# Altium footprint library PcbLib1.PcbLib: 218 footprints (part 6 of 14)
Each footprint in its own frame and in the unit in brackets; x right, y up, seen from the top. Pads: shape width x height; smd on the part's side, far side on the other; paste and mask are expansions set on the pad; w line width, h text height; cw(c..) or ccw(c..) is an arc to the next point about the centre after c.
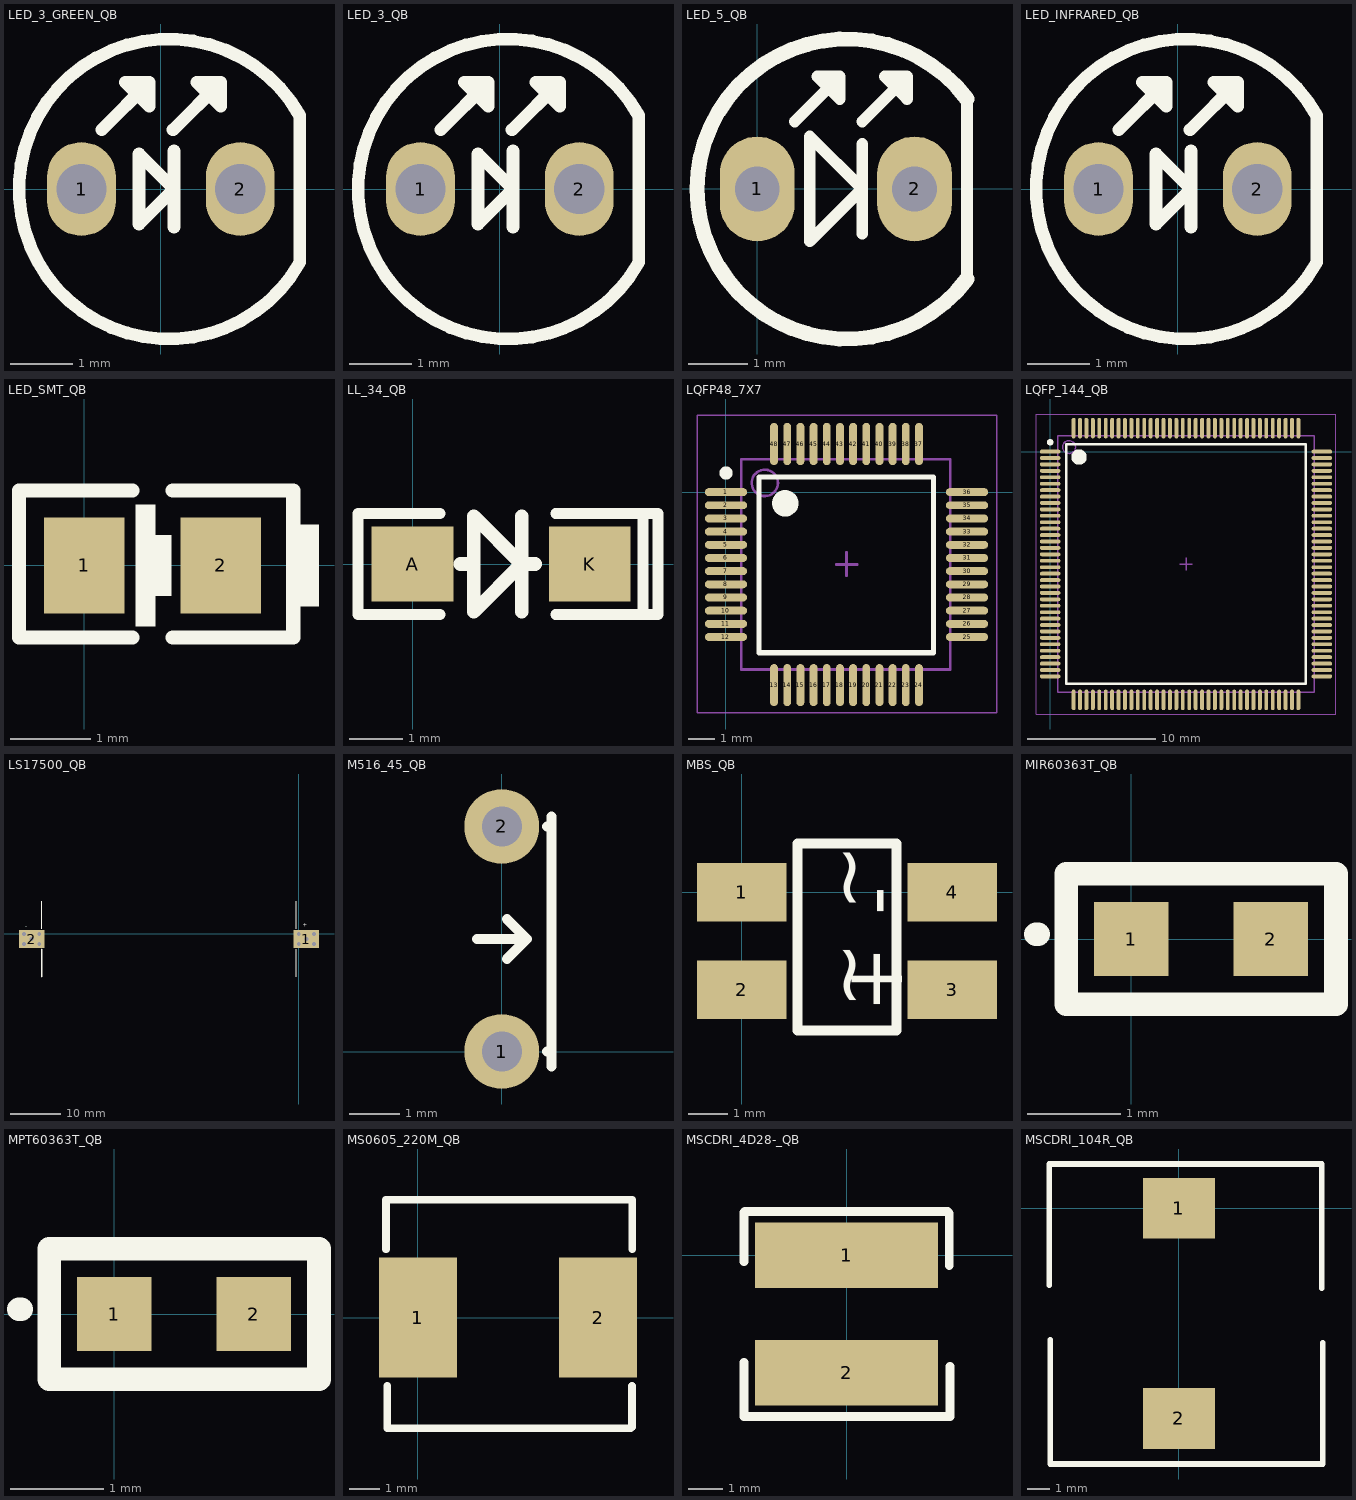
[diagram p5: the footprints below, top view; thin cyan lines are the x and y axes]

## LED_3_GREEN_QB [mm]
pads (2):
  oval 1.1x1.5 hole 0.8: 1(-1.27,0) 2(1.27,0)
Top Overlay:
  lines w0.2: 2.22,-1.171 2.22,1.18
  lines w0.203: -0.948,0.946 -0.186,1.708 ; 0.195,0.946 0.957,1.708 ; 0.209,-0.61 0.209,0.61 ; 2.22,1.18 ccw(c0.13,0) 2.223,-1.174 ; -0.186,1.708 -0.567,1.708 -0.186,1.327 -0.186,1.708 ; 0.957,1.708 0.957,1.327 0.576,1.708 0.957,1.708 ; -0.349,-0.559 0.209,0 -0.349,0.559 -0.349,-0.559
3D body: height 9, standoff 5, extent -1.425,-1.45 1.563,1.544
3D body: height 10.5, standoff 7.5, extent -1.423,-1.45 1.561,1.537
3D body: height 1.4, standoff -6.6, extent -1.392,-0.254 -0.894,0.245
3D body: height 1.4, standoff -6.6, extent 1.026,-0.245 1.524,0.254

## LED_3_QB [mm]
pads (2):
  oval 1.1x1.5 hole 0.8: 1(-1.27,0) 2(1.27,0)
Top Overlay:
  lines w0.2: 2.22,-1.171 2.22,1.18
  lines w0.203: -0.948,0.946 -0.186,1.708 ; 0.195,0.946 0.957,1.708 ; 0.209,-0.61 0.209,0.61 ; 2.22,1.18 ccw(c0.13,0) 2.223,-1.174 ; -0.186,1.708 -0.567,1.708 -0.186,1.327 -0.186,1.708 ; 0.957,1.708 0.957,1.327 0.576,1.708 0.957,1.708 ; -0.349,-0.559 0.209,0 -0.349,0.559 -0.349,-0.559
3D body: height 4, standoff 0, extent -1.425,-1.45 1.563,1.544
3D body: height 5.5, standoff 2.5, extent -1.423,-1.45 1.561,1.537
3D body: height 0, standoff -2, extent -1.392,-0.254 -0.894,0.245
3D body: height 0, standoff -2, extent 1.026,-0.245 1.524,0.254

## LED_5_QB [mil]
pads (2):
  oval 50x70 hole 30: 1(0,0) 2(105,0)
Top Overlay:
  lines w7.78: 25,45 55,75 ; 70,-30 70,30 ; 70,45 100,75 ; 140,-60.15 140,60 ; 55,75 55,60 40,75 55,75 ; 100,75 100,60 85,75 100,75 ; 35,-35 35,35 70,0 35,-35
  lines w10: 140,-60.15 cw(c59.9,-0.07) 140,60
3D body: height 157.48, standoff 0, extent -14.3,-70.72 126.87,70.73
3D body: height 228.35, standoff 86.61, extent -14.12,-70.56 126.87,70.57
3D body: height 0, standoff -78.74, extent -9.76,-9.82 9.84,9.83
3D body: height 0, standoff -78.74, extent 95.24,-9.82 114.85,9.83

## LED_INFRARED_QB [mm]
pads (2):
  oval 1.1x1.5 hole 0.8: 1(-1.27,0) 2(1.27,0)
Top Overlay:
  lines w0.2: 2.22,-1.171 2.22,1.18
  lines w0.203: -0.948,0.946 -0.186,1.708 ; 0.195,0.946 0.957,1.708 ; 0.209,-0.61 0.209,0.61 ; 2.22,1.18 ccw(c0.13,0) 2.223,-1.174 ; -0.186,1.708 -0.567,1.708 -0.186,1.327 -0.186,1.708 ; 0.957,1.708 0.957,1.327 0.576,1.708 0.957,1.708 ; -0.349,-0.559 0.209,0 -0.349,0.559 -0.349,-0.559
3D body: height 4, standoff 0, extent -1.425,-1.45 1.563,1.544
3D body: height 5.5, standoff 2.5, extent -1.423,-1.45 1.561,1.537
3D body: height 0, standoff -2, extent -1.392,-0.254 -0.894,0.245
3D body: height 0, standoff -2, extent 1.026,-0.245 1.524,0.254

## LED_SMT_QB [mm]
pads (2):
  rect 1x1.2 smd: 1(0,0) 2(1.7,0)
Top Overlay:
  rectangle: 2.6,-0.508 2.921,0.508
  rectangle: 0.635,-0.762 0.889,0.762
  rectangle: 0.762,-0.381 1.083,0.381
  lines w0.152: -0.813,0.831 -0.813,0.933
  lines w0.178: 0.6,-0.896 -0.813,-0.896 -0.813,0.933 0.6,0.933 ; 1.1,-0.896 2.6,-0.896 2.6,0.933 1.1,0.933
3D body: height 0.6, standoff 0, extent 0,-0.508 1.778,0.508

## LL_34_QB [mil]
pads (2):
  rect 60x55 smd: A(0,0) K(130,0)
Top Overlay:
  lines w8: 20,-37 -40,-37 -40,37 20,37 ; 105,-37 169,-37 ; 105,37 169,37 ; 169,-37 169,37 ; 169,-37 180,-37 180,37 169,37
  lines w10: 35,0 45,0 ; 80,-35 80,35 ; 90,0 80,0 ; 80,0 45,-35 45,35 80,0
3D body: height 59, standoff 0.06, extent -3.86,-28.59 133.94,30.24

## LQFP48_7X7 [mm]
pads (48):
  oval 1.6x0.3 smd: 1(0,0) 2(0,-0.5) 3(0,-1) 4(0,-1.5) 5(0,-2) 6(0,-2.5) 7(0,-3) 8(0,-3.5) 9(0,-4) 10(0,-4.5) 11(0,-5) 12(0,-5.5) 25(9.15,-5.5) 26(9.15,-5) 27(9.15,-4.5) 28(9.15,-4) 29(9.15,-3.5) 30(9.15,-3) 31(9.15,-2.5) 32(9.15,-2) 33(9.15,-1.5) 34(9.15,-1) 35(9.15,-0.5) 36(9.15,0)
  oval 0.3x1.6 smd: 13(1.825,-7.325) 14(2.325,-7.325) 15(2.825,-7.325) 16(3.325,-7.325) 17(3.825,-7.325) 18(4.325,-7.325) 19(4.825,-7.325) 20(5.325,-7.325) 21(5.825,-7.325) 22(6.325,-7.325) 23(6.825,-7.325) 24(7.325,-7.325) 37(7.325,1.825) 38(6.825,1.825) 39(6.325,1.825) 40(5.825,1.825) 41(5.325,1.825) 42(4.825,1.825) 43(4.325,1.825) 44(3.825,1.825) 45(3.325,1.825) 46(2.825,1.825) 47(2.325,1.825) 48(1.825,1.825)
Top Overlay:
  circle w0.25: c0,0.725 r0.125
  circle w0.6: c2.25,-0.425 r0.2
  lines w0.2: 1.25,-6.096 1.25,0.575 7.874,0.575 7.874,-6.096 1.25,-6.096
Mechanical 13:
  circle w0.1: c1.475,0.35 r0.5
  lines w0.1: 0.575,-6.731 0.575,1.25 8.509,1.25 8.509,-6.731 0.575,-6.731
Mechanical 15:
  lines w0.05: -1.1,-8.382 -1.1,2.925 10.287,2.925 10.287,-8.382 -1.1,-8.382
  lines w0.1: 4.191,-2.75 4.979,-2.75 ; 4.575,-3.175 4.575,-2.827 4.575,-2.286
3D body: height 1.6, standoff 0.1, extent 0.575,-6.731 8.509,1.25

## LQFP_144_QB [mm]
height 1.6
pads (144):
  oval 1.6x0.3 smd: 1(0,0) 2(0,-0.5) 3(0,-1) 4(0,-1.5) 5(0,-2) 6(0,-2.5) 7(0,-3) 8(0,-3.5) 9(0,-4) 10(0,-4.5) 11(0,-5) 12(0,-5.5) 13(0,-6) 14(0,-6.5) 15(0,-7) 16(0,-7.5) 17(0,-8) 18(0,-8.5) 19(0,-9) 20(0,-9.5) 21(0,-10) 22(0,-10.5) 23(0,-11) 24(0,-11.5) 25(0,-12) 26(0,-12.5) 27(0,-13) 28(0,-13.5) 29(0,-14) 30(0,-14.5) 31(0,-15) 32(0,-15.5) 33(0,-16) 34(0,-16.5) 35(0,-17) 36(0,-17.5) 73(21.15,-17.5) 74(21.15,-17) 75(21.15,-16.5) 76(21.15,-16) 77(21.15,-15.5) 78(21.15,-15) 79(21.15,-14.5) 80(21.15,-14) 81(21.15,-13.5) 82(21.15,-13) 83(21.15,-12.5) 84(21.15,-12) 85(21.15,-11.5) 86(21.15,-11) 87(21.15,-10.5) 88(21.15,-10) 89(21.15,-9.5) 90(21.15,-9) 91(21.15,-8.5) 92(21.15,-8) 93(21.15,-7.5) 94(21.15,-7) 95(21.15,-6.5) 96(21.15,-6) 97(21.15,-5.5) 98(21.15,-5) 99(21.15,-4.5) 100(21.15,-4) 101(21.15,-3.5) 102(21.15,-3) 103(21.15,-2.5) 104(21.15,-2) 105(21.15,-1.5) 106(21.15,-1) 107(21.15,-0.5) 108(21.15,0)
  oval 0.3x1.6 smd: 37(1.825,-19.325) 38(2.325,-19.325) 39(2.825,-19.325) 40(3.325,-19.325) 41(3.825,-19.325) 42(4.325,-19.325) 43(4.825,-19.325) 44(5.325,-19.325) 45(5.825,-19.325) 46(6.325,-19.325) 47(6.825,-19.325) 48(7.325,-19.325) 49(7.825,-19.325) 50(8.325,-19.325) 51(8.825,-19.325) 52(9.325,-19.325) 53(9.825,-19.325) 54(10.325,-19.325) 55(10.825,-19.325) 56(11.325,-19.325) 57(11.825,-19.325) 58(12.325,-19.325) 59(12.825,-19.325) 60(13.325,-19.325) 61(13.825,-19.325) 62(14.325,-19.325) 63(14.825,-19.325) 64(15.325,-19.325) 65(15.825,-19.325) 66(16.325,-19.325) 67(16.825,-19.325) 68(17.325,-19.325) 69(17.825,-19.325) 70(18.325,-19.325) 71(18.825,-19.325) 72(19.325,-19.325) 109(19.325,1.825) 110(18.825,1.825) 111(18.325,1.825) 112(17.825,1.825) 113(17.325,1.825) 114(16.825,1.825) 115(16.325,1.825) 116(15.825,1.825) 117(15.325,1.825) 118(14.825,1.825) 119(14.325,1.825) 120(13.825,1.825) 121(13.325,1.825) 122(12.825,1.825) 123(12.325,1.825) 124(11.825,1.825) 125(11.325,1.825) 126(10.825,1.825) 127(10.325,1.825) 128(9.825,1.825) 129(9.325,1.825) 130(8.825,1.825) 131(8.325,1.825) 132(7.825,1.825) 133(7.325,1.825) 134(6.825,1.825) 135(6.325,1.825) 136(5.825,1.825) 137(5.325,1.825) 138(4.825,1.825) 139(4.325,1.825) 140(3.825,1.825) 141(3.325,1.825) 142(2.825,1.825) 143(2.325,1.825) 144(1.825,1.825)
Top Overlay:
  circle w0.25: c0,0.725 r0.125
  circle w0.6: c2.25,-0.425 r0.3
  lines w0.2: 1.25,-18.075 1.25,0.575 19.9,0.575 19.9,-18.075 1.25,-18.075
Mechanical 13:
  circle w0.1: c1.475,0.35 r0.5
  lines w0.1: 0.575,-18.75 0.575,1.25 20.575,1.25 20.575,-18.75 0.575,-18.75
Mechanical 15:
  lines w0.05: -1.1,-20.425 -1.1,2.925 22.25,2.925 22.25,-20.425 -1.1,-20.425
  lines w0.1: 10.075,-8.75 11.075,-8.75 ; 10.575,-9.25 10.575,-8.25
3D body: height 1.6, standoff 0.1, extent 0.575,-18.75 20.575,1.25

## LS17500_QB [mm]
pads (12):
  rect 1x1 hole 0.762: 1(0,-2) 1(0,0) 1(1.5,-1) 1(3,-2) 1(3,0) 2(-54.4,-2) 2(-54.4,0) 2(-52.9,-1) 2(-51.4,-2) 2(-51.4,0)
  rect 5x3.5 smd: 1(1.5,-1) 2(-52.9,-1)
Top Overlay:
  lines w0.127: -50.9,1 -50.9,6.5 ; -0.5,-8.5 -0.5,-3 ; -0.5,1 -0.5,6.5
  lines w0.3: -50.9,-8.5 -50.9,-3
  text "-" at -54.202,1.159 h0.8
  text "+" at 0.789,1.413 h0.8
3D body "dianchi17x50-1225.stp": height 20.92, standoff 0, extent -53.86,-9.643 2.54,7.357

## M516_45_QB [mm]
height 5
pads (2):
  round 1.5 hole 0.8: 1(0,0) 2(0,4.5)
Top Overlay:
  lines w0.2: -0.5,2.25 0.5,2.25 ; 0.1,1.85 0.5,2.25 ; 0.1,2.65 0.5,2.25 ; 0.9,0 1,0 ; 0.9,4.5 1,4.5 ; 1,-0.3 1,4.7
3D body: height 6.75, standoff 6.25, extent -0.254,-0.249 0.243,0.249
3D body: height 6.75, standoff 6.25, extent -0.249,4.252 0.249,4.75
3D body: height 6.75, standoff 6.25, extent -2.005,-0.229 0.051,0.61
3D body: height 6.75, standoff 6.25, extent -2.019,3.886 0.038,4.724
3D body: height 9.24, standoff 1.54, extent -17.157,-0.383 -0.533,4.597
3D body: height 6.5, standoff -2, extent -0.25,-0.249 0.25,0.25
3D body: height 6.5, standoff -2, extent -0.25,4.251 0.25,4.75

## MBS_QB [mm]
pads (4):
  rect 2.3x1.5 smd: 1(0,0) 2(0,-2.5) 3(5.4,-2.5) 4(5.4,0)
Top Overlay:
  lines w0.254: 1.427,-3.548 1.427,1.252 3.973,1.252 3.973,-3.548 1.427,-3.548
  text "+" at 4.112,-3.091 h1.5
  text "-" at 4.112,-0.591 h1.5
  text "~" at 3.412,-2.991 h1.5
  text "~" at 3.412,-0.491 h1.5
3D body: height 1, standoff 0, extent 3.764,-3.099 5.923,-1.93
3D body: height 1, standoff 0, extent 3.764,-0.584 5.923,0.584
3D body: height 1, standoff 0, extent -0.414,-3.099 1.605,-1.93
3D body: height 1, standoff 0, extent -0.376,-0.61 1.605,0.559
3D body: height 3, standoff 0, extent 1.465,-3.531 3.878,1.143

## MIR60363T_QB [mm]
pads (2):
  rect 0.8x0.8 smd: 1(0,0) 2(1.5,0)
Top Overlay:
  lines w0.254: -1.025,0.05 -1,0.05 ; -0.7,-0.7 -0.7,0.7 2.2,0.7 2.2,-0.7 -0.7,-0.7
3D body: height 0.05, standoff 0, extent -0.575,-0.575 2.075,0.575
3D body: height 0.3, standoff 0.01, extent -0.575,-0.575 2.075,0.575

## MPT60363T_QB [mm]
pads (2):
  rect 0.8x0.8 smd: 1(0,0) 2(1.5,0)
Top Overlay:
  lines w0.254: -1.025,0.05 -1,0.05 ; -0.7,-0.7 2.2,-0.7 2.2,0.7 -0.7,0.7 -0.7,-0.7
3D body: height 0.3, standoff 0.01, extent -0.575,-0.575 2.075,0.575
3D body: height 0.05, standoff 0, extent -0.575,-0.575 2.075,0.575

## MS0605_220M_QB [mm]
pads (2):
  rect 2.6x4 smd: 1(0,0) 2(6,0)
Top Overlay:
  lines w0.254: -1.067,2.278 -1.067,3.929 7.14,3.929 7.14,3.909 7.14,2.276 ; -1.024,-2.281 -1.024,-3.693 7.089,-3.693 7.132,-3.65 7.132,-2.281
3D body: height 5, standoff 0, extent -0.744,-3.396 6.861,3.609

## MSCDRI_4D28-_QB [mm]
pads (2):
  rect 5.3x1.9 smd: 1(0,0) 2(0,-3.4)
Top Overlay:
  lines w0.254: -2.975,-3.1 -2.975,-4.675 3,-4.675 3,-3.225 ; -2.975,-0.175 -2.975,1.25 -2.95,1.275 2.925,1.275 2.975,1.225 2.975,-0.3
3D body: height 3, standoff 0, extent -2.35,-4.075 2.375,0.65

## MSCDRI_104R_QB [mm]
pads (2):
  rect 3.2x2.7 smd: 1(0,0) 2(0,-9.35)
Top Overlay:
  lines w0.254: -5.775,-3.425 -5.775,1.975 6.35,1.975 6.35,-3.55 ; -5.725,-5.85 -5.725,-11.375 6.4,-11.375 6.4,-5.975
3D body: height 4.1, standoff 0, extent -5.125,-10 5.7,0.7